# Altium footprint library patricklib.PcbLib: 39 footprints (part 2 of 3)
Each footprint in its own frame and in the unit in brackets; x right, y up, seen from the top. Pads: shape width x height; smd on the part's side, far side on the other; paste and mask are expansions set on the pad; w line width, h text height; cw(c..) or ccw(c..) is an arc to the next point about the centre after c.
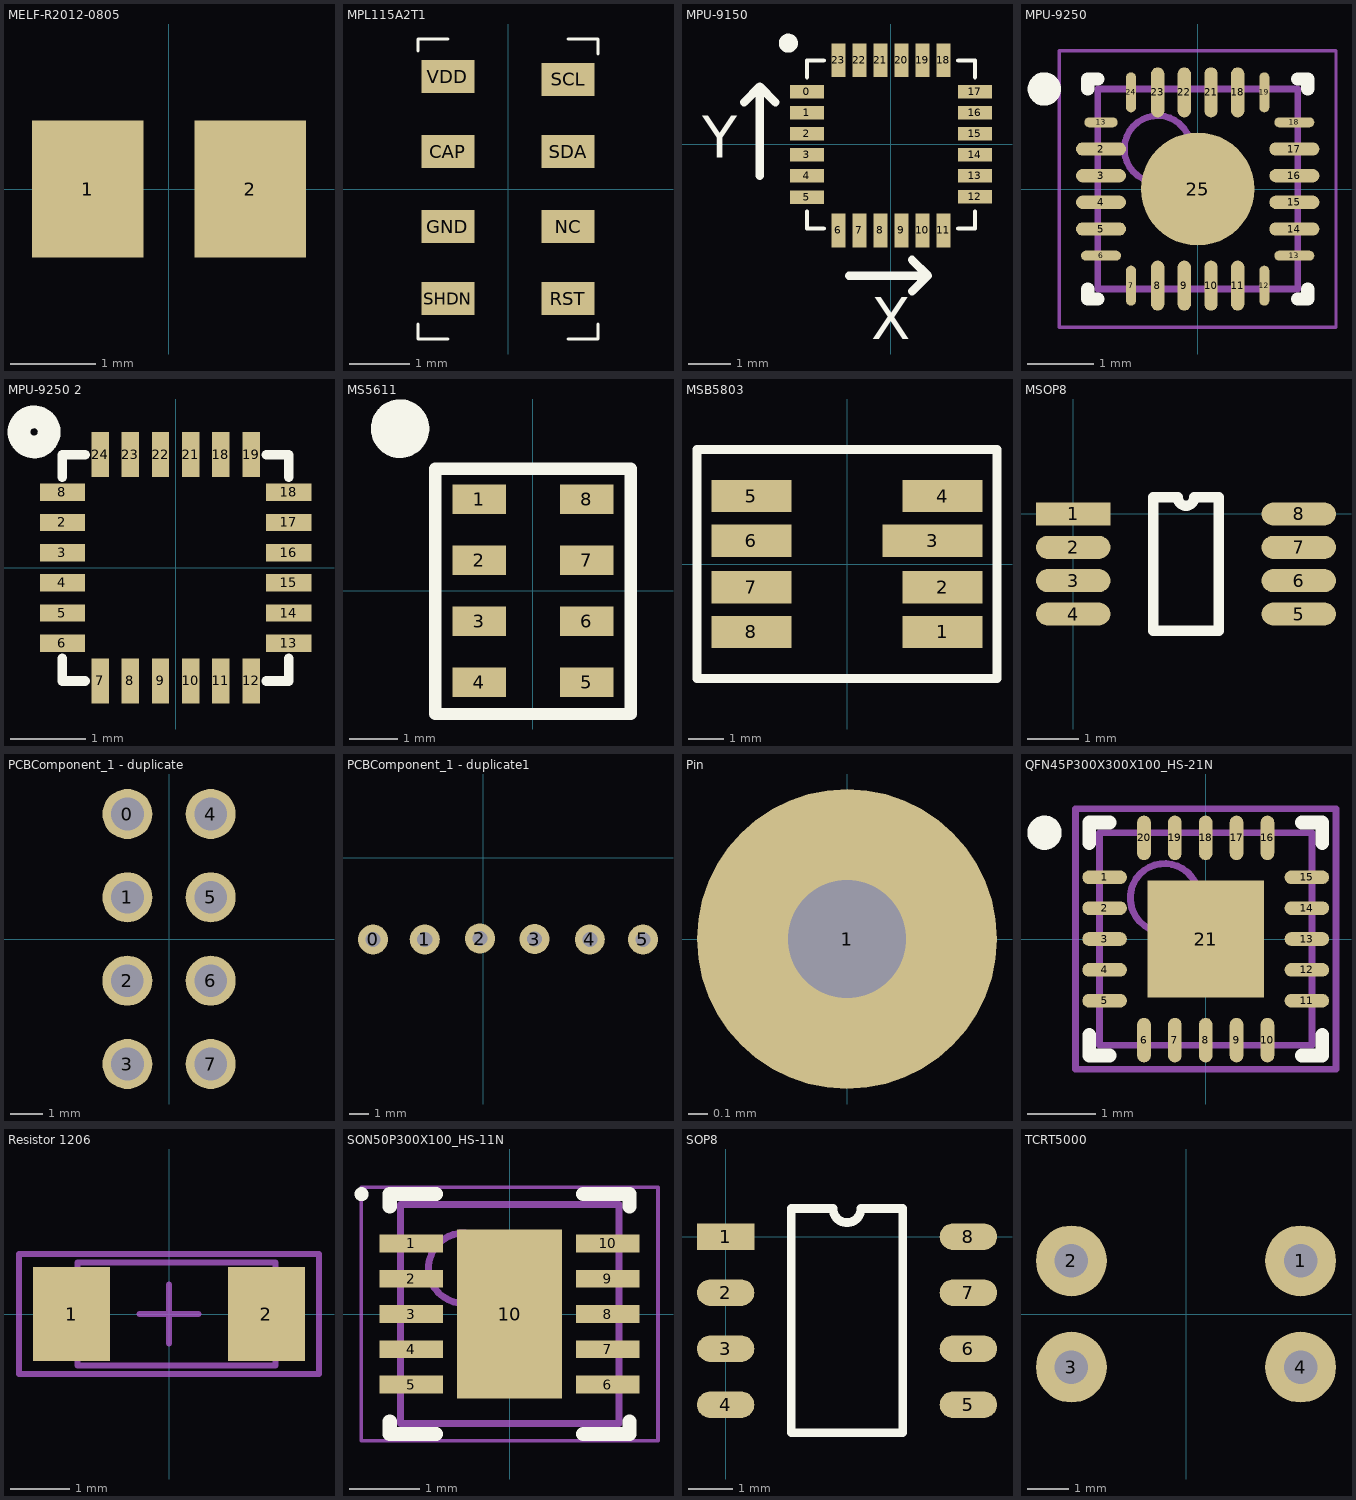
[diagram p1: the footprints below, top view; thin cyan lines are the x and y axes]

## MELF-R2012-0805 [mm] "Metal Electrode Face (MELF) Resistor; Body 2 x 1.4 mm (LxDia)"
height 1.45
pads (2):
  rect 1.3x1.6 smd: 1(-0.95,0) 2(0.95,0)

## MPL115A2T1 [mm]
height 1.2
pads (8):
  rect 0.88x0.55 all layers, no hole: CAP(-1,0.625) GND(-1,-0.625) NC(1,-0.625) RST(1,-1.825) SCL(1,1.825) SDA(1,0.625) SHDN(-1,-1.825) VDD(-1,1.875)
Top Overlay:
  lines w0.05: -1.5,-2.25 -1.5,-2.5 -1,-2.5 ; -1.5,2.3 -1.5,2.5 -1,2.5 ; 1,-2.5 1.5,-2.5 1.5,-2.25 ; 1,2.5 1.5,2.5 1.5,2.25

## MPU-9150 [mm]
pads (24):
  rect 0.8x0.325 smd mask+0.15: 0(-2,1.25) 1(-2,0.75) 2(-2,0.25) 3(-2,-0.25) 4(-2,-0.75) 5(-2,-1.255) 12(2,-1.25) 13(2,-0.75) 14(2,-0.25) 15(2,0.25) 16(2,0.75) 17(2,1.25)
  rect 0.325x0.8 smd mask+0.15: 6(-1.25,-2.05) 7(-0.75,-2.05) 8(-0.25,-2.05) 9(0.25,-2.05) 10(0.75,-2.05) 11(1.25,-2.05) 18(1.25,2) 19(0.75,2) 20(0.25,2) 21(-0.25,2) 22(-0.75,2) 23(-1.25,2)
Top Overlay:
  circle w0.254: c-2.444,2.409 r0.1
  lines w0.08: -3.125,1.375 -3.125,1.375 ; -2.75,1 -2.75,1
  lines w0.1: -2,-1.6 -2,-2 -1.6,-2 ; -2,1.6 -2,2 -1.6,2 ; 1.6,-2 2,-2 2,-1.6 ; 1.6,2 2,2 2,1.6 ; -3.125,1.375 -3.125,1.375
  lines w0.2: -3.5,1 -3.125,1.375 ; -3.125,-0.75 -3.125,1.375 ; -2.75,1 -3.125,1.375 ; -1,-3.125 0.875,-3.125 ; 0.5,-3.5 0.875,-3.125 ; 0.5,-2.75 0.875,-3.125
  text "Y" at -4.494,-0.322 h1
  text "X" at -0.472,-4.634 h1

## MPU-9250 [mm] "mpu-9250"
height 1
pads (25):
  oval 0.75x0.2 smd: 2(-1.45,0.6) 3(-1.45,0.2) 4(-1.45,-0.2) 5(-1.45,-0.6) 14(1.45,-0.6) 15(1.45,-0.2) 16(1.45,0.2) 17(1.45,0.6)
  oval 0.6x0.15 smd: 6(-1.45,-1) 13(1.45,-1) 18(1.45,1)
  oval 0.15x0.6 smd: 7(-1,-1.45) 12(1,-1.45) 19(1,1.45) 24(-1,1.45)
  oval 0.2x0.75 smd: 8(-0.6,-1.45) 9(-0.2,-1.45) 10(0.2,-1.45) 11(0.6,-1.45) 18(0.6,1.45) 21(0.2,1.45) 22(-0.2,1.45) 23(-0.6,1.45)
  oval 0.5x0.15 smd: 13(-1.45,1)
  round 1.7 smd: 25(0,0)
Top Overlay:
  circle w0.25: c-2.3,1.5 r0.125
  lines w0.2: -1.65,-1.5 -1.65,-1.65 -1.5,-1.65 ; -1.65,1.5 -1.65,1.65 -1.5,1.65 ; 1.5,-1.65 1.65,-1.65 1.65,-1.5 ; 1.5,1.65 1.65,1.65 1.65,1.5
Mechanical 13:
  circle w0.1: c-0.6,0.6 r0.5
  lines w0.1: -1.5,-1.5 -1.5,1.5 1.5,1.5 1.5,-1.5 -1.5,-1.5
Mechanical 15:
  lines w0.05: -2.075,-2.075 -2.075,2.075 2.075,2.075 2.075,-2.075 -2.075,-2.075
  lines w0.1: -0.5,0 0.5,0 ; 0,-0.5 0,0.5
3D body: height 1, standoff 0.01, extent -1.5,-1.5 1.5,1.5

## MPU-9250 2 [mm]
pads (24):
  rect 0.6x0.23 smd paste-25.4 mask-25.4: 2(-1.5,0.6) 3(-1.5,0.2) 4(-1.5,-0.2) 5(-1.5,-0.6) 6(-1.5,-1) 8(-1.5,1) 13(1.5,-1) 14(1.5,-0.6) 15(1.5,-0.2) 16(1.5,0.2) 17(1.5,0.6) 18(1.5,1)
  rect 0.23x0.6 smd paste-25.4 mask-25.4: 7(-1,-1.5) 8(-0.6,-1.5) 9(-0.2,-1.5) 10(0.2,-1.5) 11(0.6,-1.5) 12(1,-1.5) 18(0.6,1.5) 19(1,1.5) 21(0.2,1.5) 22(-0.2,1.5) 23(-0.6,1.5) 24(-1,1.5)
Top Overlay:
  circle w0.3: c-1.875,1.8 r0.2
  lines w0.127: -1.5,-1.2 -1.5,-1.5 -1.2,-1.5 ; -1.5,1.2 -1.5,1.5 -1.2,1.5 ; 1.2,-1.5 1.5,-1.5 1.5,-1.2 ; 1.2,1.5 1.5,1.5 1.5,1.2
Top Paste:
  region: -1.115,1.8 -1.115,1.2 -0.885,1.2 -0.885,1.8
  region: -0.715,1.8 -0.715,1.2 -0.485,1.2 -0.485,1.8
  region: -0.315,1.8 -0.315,1.2 -0.085,1.2 -0.085,1.8
  region: 0.085,1.8 0.085,1.2 0.315,1.2 0.315,1.8
  region: 0.485,1.8 0.485,1.2 0.715,1.2 0.715,1.8
  region: 0.885,1.8 0.885,1.2 1.115,1.2 1.115,1.8
  region: 1.8,1.115 1.2,1.115 1.2,0.885 1.8,0.885
  region: 1.8,0.715 1.2,0.715 1.2,0.485 1.8,0.485
  region: 1.8,0.315 1.2,0.315 1.2,0.085 1.8,0.085
  region: 1.8,-0.085 1.2,-0.085 1.2,-0.315 1.8,-0.315
  region: 1.8,-0.485 1.2,-0.485 1.2,-0.715 1.8,-0.715
  region: 1.8,-0.885 1.2,-0.885 1.2,-1.115 1.8,-1.115
  region: 1.115,-1.8 1.115,-1.2 0.885,-1.2 0.885,-1.8
  region: 0.715,-1.8 0.715,-1.2 0.485,-1.2 0.485,-1.8
  region: 0.315,-1.8 0.315,-1.2 0.085,-1.2 0.085,-1.8
  region: -0.085,-1.8 -0.085,-1.2 -0.315,-1.2 -0.315,-1.8
  region: -0.485,-1.8 -0.485,-1.2 -0.715,-1.2 -0.715,-1.8
  region: -0.885,-1.8 -0.885,-1.2 -1.115,-1.2 -1.115,-1.8
  region: -1.8,-1.115 -1.2,-1.115 -1.2,-0.885 -1.8,-0.885
  region: -1.8,-0.715 -1.2,-0.715 -1.2,-0.485 -1.8,-0.485
  region: -1.8,-0.315 -1.2,-0.315 -1.2,-0.085 -1.8,-0.085
  region: -1.8,0.085 -1.2,0.085 -1.2,0.315 -1.8,0.315
  region: -1.8,0.485 -1.2,0.485 -1.2,0.715 -1.8,0.715
  region: -1.8,0.885 -1.2,0.885 -1.2,1.115 -1.8,1.115
Top Solder:
  region: -1.215,1.9 -1.215,1.1 -0.785,1.1 -0.785,1.9
  region: -0.815,1.9 -0.815,1.1 -0.385,1.1 -0.385,1.9
  region: -0.415,1.9 -0.415,1.1 0.015,1.1 0.015,1.9
  region: -0.015,1.9 -0.015,1.1 0.415,1.1 0.415,1.9
  region: 0.385,1.9 0.385,1.1 0.815,1.1 0.815,1.9
  region: 0.785,1.9 0.785,1.1 1.215,1.1 1.215,1.9
  region: 1.9,1.215 1.1,1.215 1.1,0.785 1.9,0.785
  region: 1.9,0.815 1.1,0.815 1.1,0.385 1.9,0.385
  region: 1.9,0.415 1.1,0.415 1.1,-0.015 1.9,-0.015
  region: 1.9,0.015 1.1,0.015 1.1,-0.415 1.9,-0.415
  region: 1.9,-0.385 1.1,-0.385 1.1,-0.815 1.9,-0.815
  region: 1.9,-0.785 1.1,-0.785 1.1,-1.215 1.9,-1.215
  region: 1.215,-1.9 1.215,-1.1 0.785,-1.1 0.785,-1.9
  region: 0.815,-1.9 0.815,-1.1 0.385,-1.1 0.385,-1.9
  region: 0.415,-1.9 0.415,-1.1 -0.015,-1.1 -0.015,-1.9
  region: 0.015,-1.9 0.015,-1.1 -0.415,-1.1 -0.415,-1.9
  region: -0.385,-1.9 -0.385,-1.1 -0.815,-1.1 -0.815,-1.9
  region: -0.785,-1.9 -0.785,-1.1 -1.215,-1.1 -1.215,-1.9
  region: -1.9,-1.215 -1.1,-1.215 -1.1,-0.785 -1.9,-0.785
  region: -1.9,-0.815 -1.1,-0.815 -1.1,-0.385 -1.9,-0.385
  region: -1.9,-0.415 -1.1,-0.415 -1.1,0.015 -1.9,0.015
  region: -1.9,-0.015 -1.1,-0.015 -1.1,0.415 -1.9,0.415
  region: -1.9,0.385 -1.1,0.385 -1.1,0.815 -1.9,0.815
  region: -1.9,0.785 -1.1,0.785 -1.1,1.215 -1.9,1.215

## MS5611 [mm] "barometer Meas Spec"
pads (8):
  rect 1.1x0.6 smd: 1(-1.1,1.875) 2(-1.1,0.625) 3(-1.1,-0.625) 4(-1.1,-1.875) 5(1.1,-1.875) 6(1.1,-0.625) 7(1.1,0.625) 8(1.1,1.875)
Top Overlay:
  circle w0.6: c-2.725,3.325 r0.3
  lines w0.254: -2,-2.525 2,-2.525 2,2.5 -2,2.5 -2,-2.525

## MSB5803 [mm]
pads (8):
  rect 2.25x0.9 smd: 1(2.675,-1.9) 2(2.675,-0.65) 4(2.675,1.9) 5(-2.675,1.9) 6(-2.675,0.65) 7(-2.675,-0.65) 8(-2.675,-1.9)
  rect 2.8x0.9 smd: 3(2.4,0.65)
Top Overlay:
  lines w0.254: -4.2,-3.2 -4.2,3.2 4.2,3.2 4.2,-3.2 -4.2,-3.2

## MSOP8 [mm]
pads (8):
  rect 1.45x0.45 smd: 1(0,0)
  oval 1.45x0.45 smd: 2(0,-0.65) 3(0,-1.3) 4(0,-1.95) 5(4.4,-1.95) 6(4.4,-1.3) 7(4.4,-0.65) 8(4.4,0)
Top Overlay:
  lines w0.2: 1.56,-2.275 2.84,-2.275 2.84,0.325 2.362,0.325 cw(c2.2,0.325) 2.037,0.325 1.56,0.325 1.56,-2.275

## PCBComponent_1 - duplicate [mil]
pads (8):
  round 60 hole 39.37: 0(-50,150) 1(-50,50) 2(-50.2,-50) 3(-50,-150) 4(50,150) 5(50,50) 6(50,-50) 7(50,-150)

## PCBComponent_1 - duplicate1 [mil]
pads (6):
  round 60 hole 30: 0(-220.47,-163.39) 1(-117.13,-163.39) 2(-6.89,-161.42) 3(102.36,-162.4) 4(212.6,-163.39) 5(318.9,-163.39)

## Pin [mil]
pads (1):
  round 60 hole 23.62: 1(0,0)

## QFN45P300X300X100_HS-21N [mm] "QFN, 20-Leads, Body 3.00x3.00mm, Pitch 0.45mm, Thermal Pad 1.55x1.55mm, IPC Medium Density"
height 1
pads (21):
  oval 0.65x0.2 smd: 1(-1.475,0.9) 2(-1.475,0.45) 3(-1.475,0) 4(-1.475,-0.45) 5(-1.475,-0.9) 11(1.475,-0.9) 12(1.475,-0.45) 13(1.475,0) 14(1.475,0.45) 15(1.475,0.9)
  oval 0.2x0.65 smd: 6(-0.9,-1.475) 7(-0.45,-1.475) 8(0,-1.475) 9(0.45,-1.475) 10(0.9,-1.475) 16(0.9,1.475) 17(0.45,1.475) 18(0,1.475) 19(-0.45,1.475) 20(-0.9,1.475)
  rect 1.7x1.7 smd: 21(0,0)
Top Overlay:
  circle w0.25: c-2.35,1.55 r0.125
  lines w0.2: -1.7,-1.4 -1.7,-1.7 -1.4,-1.7 ; -1.7,1.4 -1.7,1.7 -1.4,1.7 ; 1.4,-1.7 1.7,-1.7 1.7,-1.4 ; 1.4,1.7 1.7,1.7 1.7,1.4
Mechanical 13:
  circle w0.1: c-0.6,0.6 r0.5
  lines w0.1: -1.55,-1.55 -1.55,1.55 1.55,1.55 1.55,-1.55 -1.55,-1.55
Mechanical 15:
  lines w0.1: -0.5,0 0.5,0 ; 0,-0.5 0,0.5 ; -1.9,-1.9 -1.9,1.9 1.9,1.9 1.9,-1.9 -1.9,-1.9
3D body: height 0.85, standoff 0, extent -1.55,-1.55 1.55,1.55

## Resistor 1206 [mm]
pads (2):
  rect 1.3x1.6 smd: 1(-1.651,0) 2(1.651,0)
Mechanical 13:
  lines w0.1: -1.548,-0.875 -1.548,0.875 1.802,0.875 1.802,-0.875 -1.548,-0.875
Mechanical 15:
  lines w0.1: -0.5,0 0.5,0 ; 0,-0.5 0,0.5 ; -2.54,-1.016 -2.54,1.016 2.54,1.016 2.54,-1.016 -2.54,-1.016
3D body: height 1, standoff 0, extent -1.6,-0.8 1.6,0.8

## SON50P300X100_HS-11N [mm] "SON, 10-Leads, Body 3.00x3.00mm, Pitch 0.50mm, Thermal Pad 2.40x1.49mm, IPC Medium Density"
height 1
pads (11):
  rect 0.9x0.25 smd mask+0: 1(-1.395,1) 2(-1.395,0.5) 3(-1.395,0) 4(-1.395,-0.5) 5(-1.395,-1) 6(1.395,-1) 7(1.395,-0.5) 8(1.395,0) 9(1.395,0.5) 10(1.395,1)
  rect 1.49x2.4 smd: 10(0,0)
Top Overlay:
  circle w0.1: c-2.1,1.7 r0.05
  lines w0.2: -1.7,-1.525 -1.7,-1.7 -1.045,-1.7 ; -1.7,1.525 -1.7,1.7 -1.045,1.7 ; 1.045,-1.7 1.7,-1.7 1.7,-1.525 ; 1.045,1.7 1.7,1.7 1.7,1.525
Mechanical 13:
  circle w0.1: c-0.65,0.65 r0.5
  lines w0.1: -1.55,-1.55 1.55,-1.55 1.55,1.55 -1.55,1.55 -1.55,-1.55
Mechanical 15:
  lines w0.05: -2.105,-1.8 2.105,-1.8 2.105,1.8 -2.105,1.8 -2.105,-1.8
  lines w0.1: -0.5,0 0.5,0 ; 0,-0.5 0,0.5
3D body: height 1, standoff 0.08, extent -1.55,-1.55 1.55,1.55

## SOP8 [mm]
pads (8):
  rect 1.3x0.6 smd: 1(0,0)
  oval 1.3x0.6 smd: 2(0,-1.27) 3(0,-2.54) 4(0,-3.81) 5(5.5,-3.81) 6(5.5,-2.54) 7(5.5,-1.27) 8(5.5,0)
Top Overlay:
  lines w0.2: 1.485,-4.445 1.485,0.635 2.432,0.635 ccw(c2.75,0.635) 3.067,0.635 4.015,0.635 4.015,-4.445 1.485,-4.445

## TCRT5000 [mm]
pads (4):
  round 1.7 hole 0.8: 1(2.75,1.275) 2(-2.75,1.275) 3(-2.75,-1.275) 4(2.75,-1.275)
via -4.65,-2.45 diameter 1.2 hole 1.2